# EAGLE library part LM324N (library aarons)
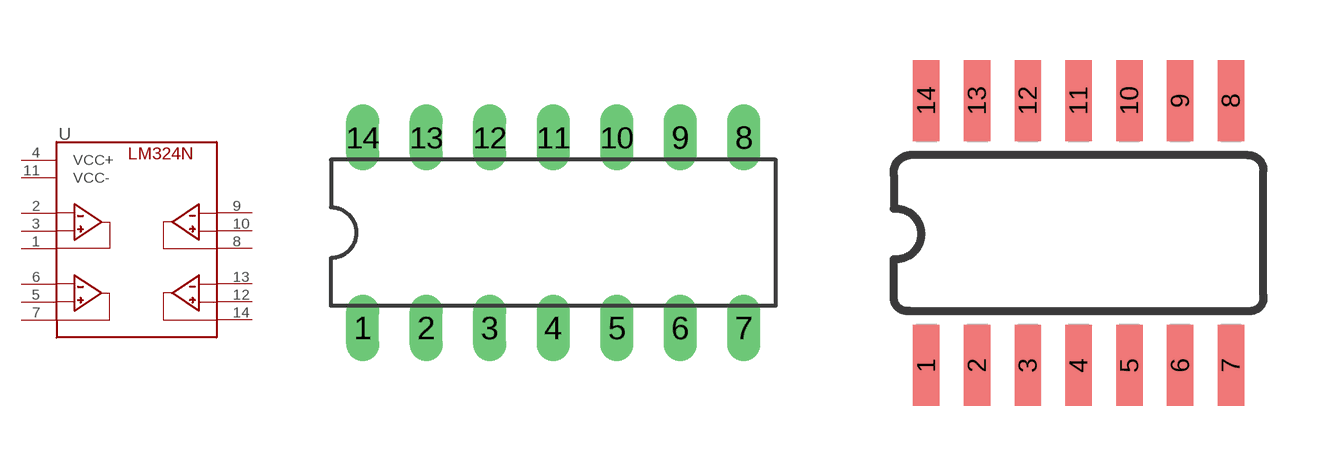
[diagram p6: symbol with the pads of DIL14; footprints DIL14, SOIC-14]

Designator prefix U

## LM324N  [DIL14]
1  OUT_1
2  INV_IN_1
3  NINV_IN_1
4  VCC+
5  NINV_IN_2
6  INV_IN_2
7  OUT_2
8  OUT_3
9  INV_3
10  NINV_3
11  VCC-
12  NINV_4
13  INV_4
14  OUT_4

## LM324NSOIC-14  [SOIC-14]
Pads as for DIL14

## Footprint DIL14 (pad centres in mm)
Dual In Line Package
drill 0.813 long: 1 -7.62,-3.81; 2 -5.08,-3.81; 3 -2.54,-3.81; 4 0,-3.81; 5 2.54,-3.81; 6 5.08,-3.81; 7 7.62,-3.81; 8 7.62,3.81; 9 5.08,3.81; 10 2.54,3.81; 11 0,3.81; 12 -2.54,3.81; 13 -5.08,3.81; 14 -7.62,3.81

## Footprint SOIC-14 (pad centres in mm)
smd 0.66 x 2.032: 1 -4.445,-3.315; 2 -3.175,-3.315; 3 -1.905,-3.315; 4 -0.635,-3.315; 5 0.635,-3.315; 6 1.905,-3.315; 7 3.175,-3.315; 8 3.175,3.315; 9 1.905,3.315; 10 0.635,3.315; 11 -0.635,3.315; 12 -1.905,3.315; 13 -3.175,3.315; 14 -4.445,3.315